# Altium footprint library Symbol.PcbLib: 206 footprints (part 1 of 15)
Each footprint in its own frame and in the unit in brackets; x right, y up, seen from the top. Pads: shape width x height; smd on the part's side, far side on the other; paste and mask are expansions set on the pad; w line width, h text height; cw(c..) or ccw(c..) is an arc to the next point about the centre after c.
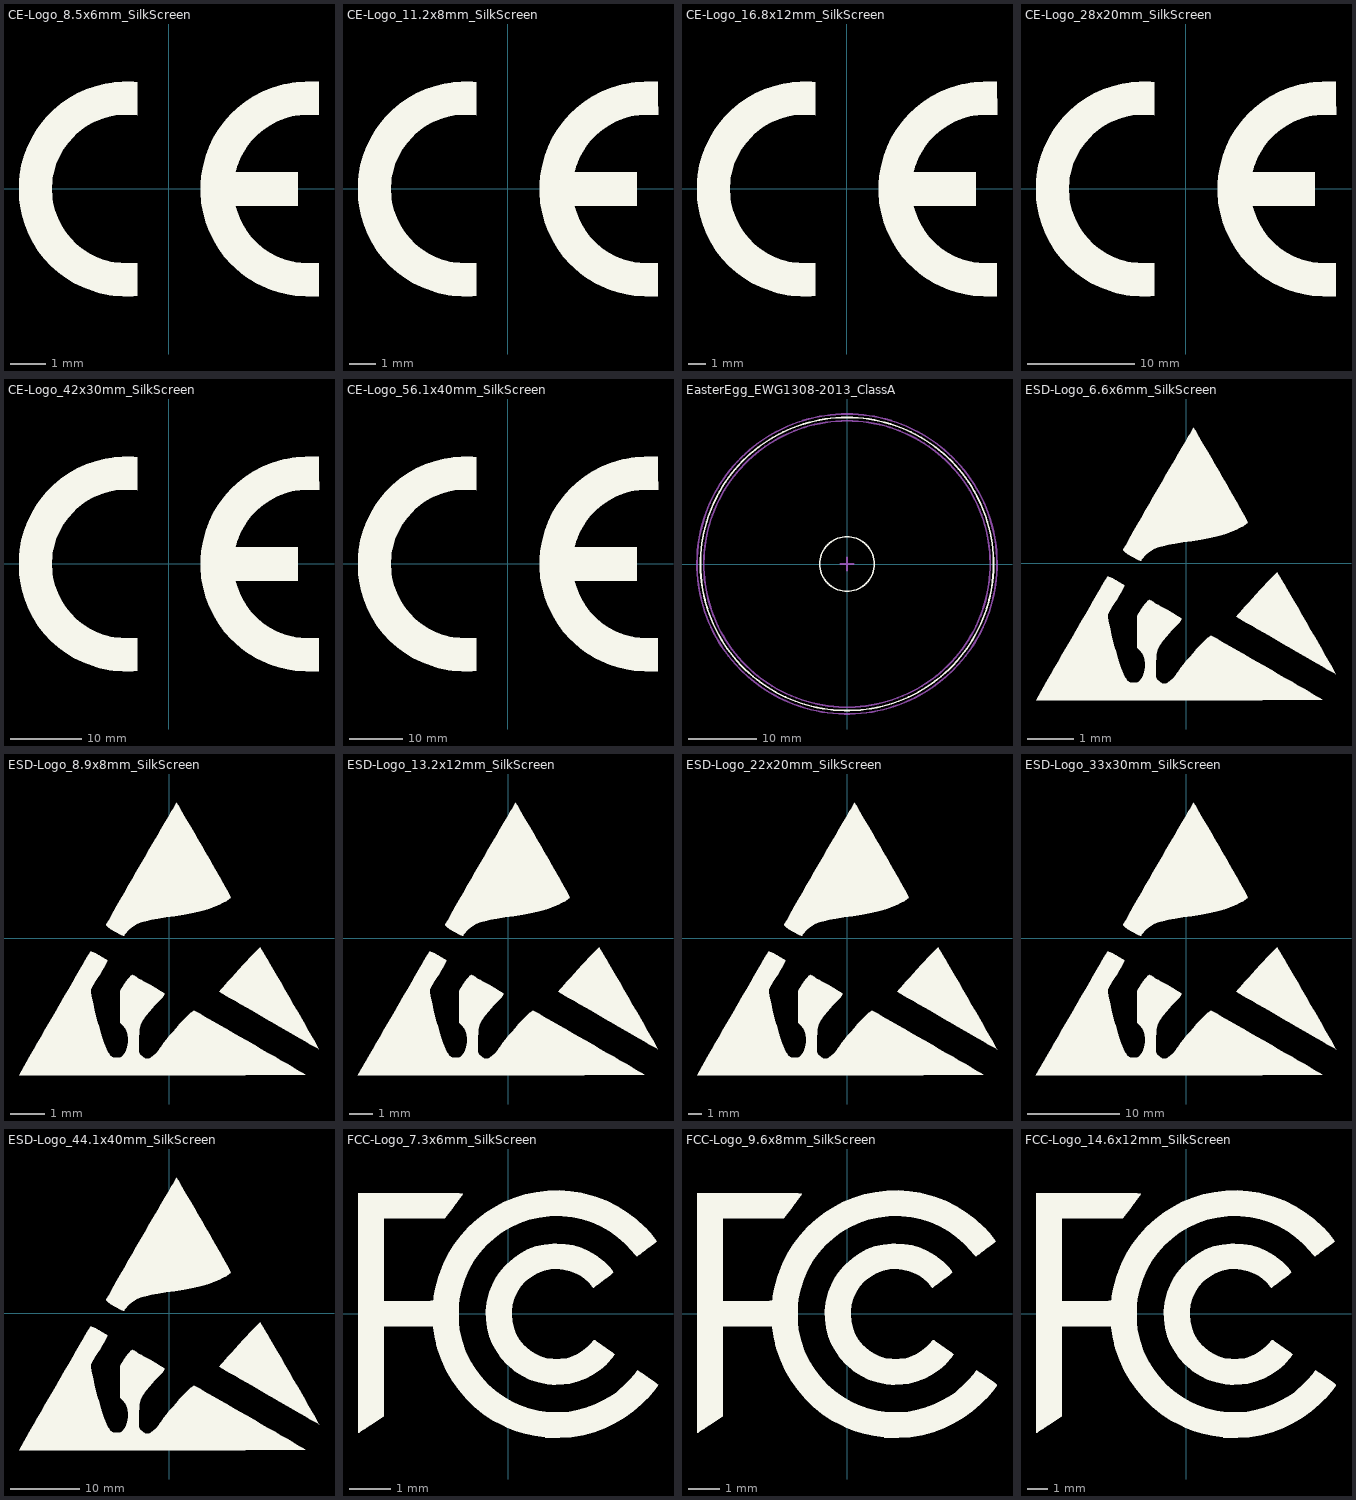
[diagram p0: the footprints below, top view; thin cyan lines are the x and y axes]

## CE-Logo_8.5x6mm_SilkScreen [mm]
F.SilkS:
  drawing of 2 lines, arcs and shapes, not listed

## CE-Logo_11.2x8mm_SilkScreen [mm]
F.SilkS:
  drawing of 2 lines, arcs and shapes, not listed

## CE-Logo_16.8x12mm_SilkScreen [mm]
F.SilkS:
  drawing of 2 lines, arcs and shapes, not listed

## CE-Logo_28x20mm_SilkScreen [mm]
F.SilkS:
  drawing of 2 lines, arcs and shapes, not listed

## CE-Logo_42x30mm_SilkScreen [mm]
F.SilkS:
  drawing of 2 lines, arcs and shapes, not listed

## CE-Logo_56.1x40mm_SilkScreen [mm]
F.SilkS:
  drawing of 2 lines, arcs and shapes, not listed

## EasterEgg_EWG1308-2013_ClassA [mm]
F.SilkS:
  circle w0.254: c0,0 r21.5
  circle w0.254: c0,0 r4
F.Fab:
  circle w0.254: c0,0 r21
  lines w0.254: -1,0 1,0 ; 0,-1 0,1
  text "'.Designator'" at -4.047,-8.34 h1
F.CrtYd:
  circle w0.254: c0,0 r22

## ESD-Logo_6.6x6mm_SilkScreen [mm]
F.SilkS:
  drawing of 3 lines, arcs and shapes, not listed

## ESD-Logo_8.9x8mm_SilkScreen [mm]
F.SilkS:
  drawing of 3 lines, arcs and shapes, not listed

## ESD-Logo_13.2x12mm_SilkScreen [mm]
F.SilkS:
  drawing of 3 lines, arcs and shapes, not listed

## ESD-Logo_22x20mm_SilkScreen [mm]
F.SilkS:
  drawing of 3 lines, arcs and shapes, not listed

## ESD-Logo_33x30mm_SilkScreen [mm]
F.SilkS:
  drawing of 3 lines, arcs and shapes, not listed

## ESD-Logo_44.1x40mm_SilkScreen [mm]
F.SilkS:
  drawing of 3 lines, arcs and shapes, not listed

## FCC-Logo_7.3x6mm_SilkScreen [mm]
F.SilkS:
  drawing of 2 lines, arcs and shapes, not listed

## FCC-Logo_9.6x8mm_SilkScreen [mm]
F.SilkS:
  drawing of 2 lines, arcs and shapes, not listed

## FCC-Logo_14.6x12mm_SilkScreen [mm]
F.SilkS:
  drawing of 2 lines, arcs and shapes, not listed